# EAGLE library part КР574УД2 (library ОУ)
OP AMP
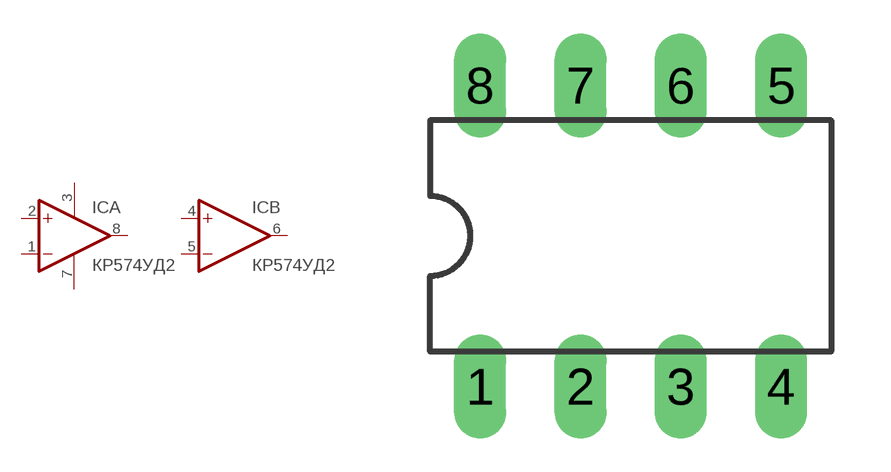
[diagram p0: symbol with the pads of DIL08; footprint DIL08]

Designator prefix IC; gates A=OPAMP B=OPAMP P=PWR+-

## КР574УД2А  [DIL08]
1  A:-IN  in
2  A:+IN  in
3  P:V+  pwr
4  B:+IN  in
5  B:-IN  in
6  B:OUT  out
7  P:V-  pwr
8  A:OUT  out

## Footprint DIL08 (pad centres in mm)
Dual In Line Package
drill 0.813 long: 1 -3.81,-3.81; 2 -1.27,-3.81; 3 1.27,-3.81; 4 3.81,-3.81; 5 3.81,3.81; 6 1.27,3.81; 7 -1.27,3.81; 8 -3.81,3.81